# EAGLE library part TE-1981584-1 (library toyotune)
MICRO USB B, BOTTOM MOUNT
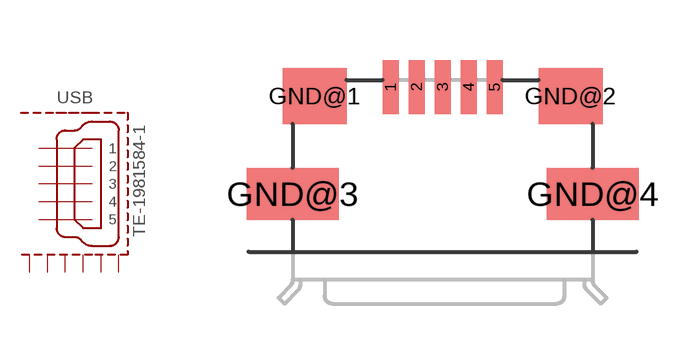
[diagram p28: symbol with the pads of TE-1981584-1; footprint TE-1981584-1]

Designator prefix USB

## TE-1981584-1  [TE-1981584-1]
1  1  in
2  2  in
3  3  in
4  4  in
5  5  in
GND@1  GND1
GND@2  GND2
GND@3  GND3
GND@4  GND4

## Footprint TE-1981584-1 (pad centres in mm)
smd 0.4 x 1.35: 1 -1.3,1.475; 2 -0.65,1.475; 3 0,1.475; 4 0.65,1.475; 5 1.3,1.475
smd 1.6 x 1.4: GND@1 -3.2,1.25; GND@2 3.2,1.25
smd 2.3 x 1.3: GND@3 -3.75,-1.2; GND@4 3.75,-1.2